# Altium integrated library 0022272031.IntLib: 1 symbol
Pins are listed as number, name and electrical type; pins without a type are passive.

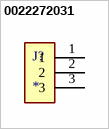
[diagram p0: symbol 0022272031]

## 0022272031
designator J?
Connector Header Through Hole 3 position 0.100 (2.54mm); MP: 0022272031; MF: Molex; Price: None; SnapEDA_Link: https://www.snapeda.com/parts/0022272031/Molex/view-part/?ref=snap; Check_prices: https://www.snapeda.com/parts/0022272031/Molex/view-part/?ref=eda; Package: None; Availability: In Stock; Value: *
footprint MOLEX_0022272031
pins: 1, 2, 3